# Altium schematic symbol library AEM20940.Schlib: 1 symbol
Pins are listed as number, name and electrical type; pins without a type are passive.

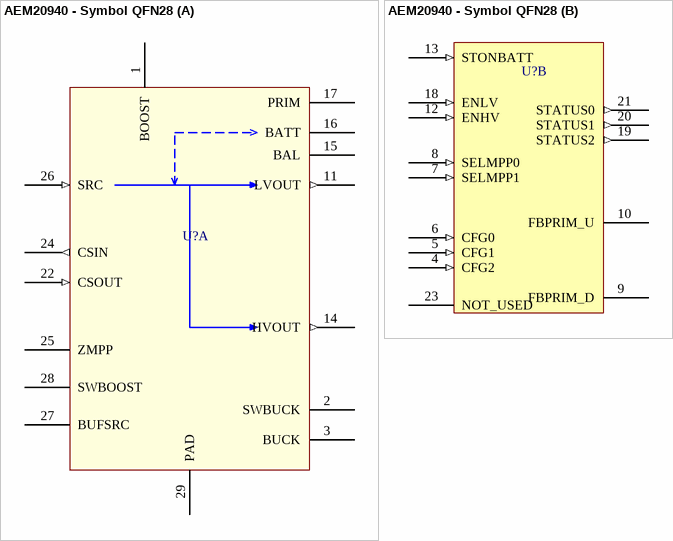
[diagram p0: symbol AEM20940 - Symbol QFN28]

## AEM20940 - Symbol QFN28
designator U?  (value not drawn)
AEM20940 - Symbol QFN28
footprint QFN28 5x5mm Pitch=0.5mm ThPad=3.15x3.15mm
part A pins: 1 BOOST, 2 SWBUCK, 3 BUCK, 11 LVOUT (out), 14 HVOUT (out), 15 BAL, 16 BATT, 17 PRIM, 22 CSOUT (in), 24 CSIN (out), 25 ZMPP, 26 SRC (in), 27 BUFSRC, 28 SWBOOST, 29 PAD (power)
part B pins: 4 CFG2 (in), 5 CFG1 (in), 6 CFG0 (in), 7 SELMPP1 (in), 8 SELMPP0 (in), 9 FBPRIM_D, 10 FBPRIM_U, 12 ENHV (in), 13 STONBATT (in), 18 ENLV (in), 19 STATUS2 (out), 20 STATUS1 (out), 21 STATUS0 (out), 23 NOT_USED